# EAGLE library part ADG453?-EV (library _hhn_adg45x)
ANALOG DEVICES ADG453 LC2MOS SPST SWITCHES: 2 x NC, 2 x NO Exploded View; D=Drain, S=Source Case-Styles BRZ: SOIC 16 Standard Author: Dipl.-Ing. FH Rainer Bayer, rainer.bayer@hs-heilbronn.de
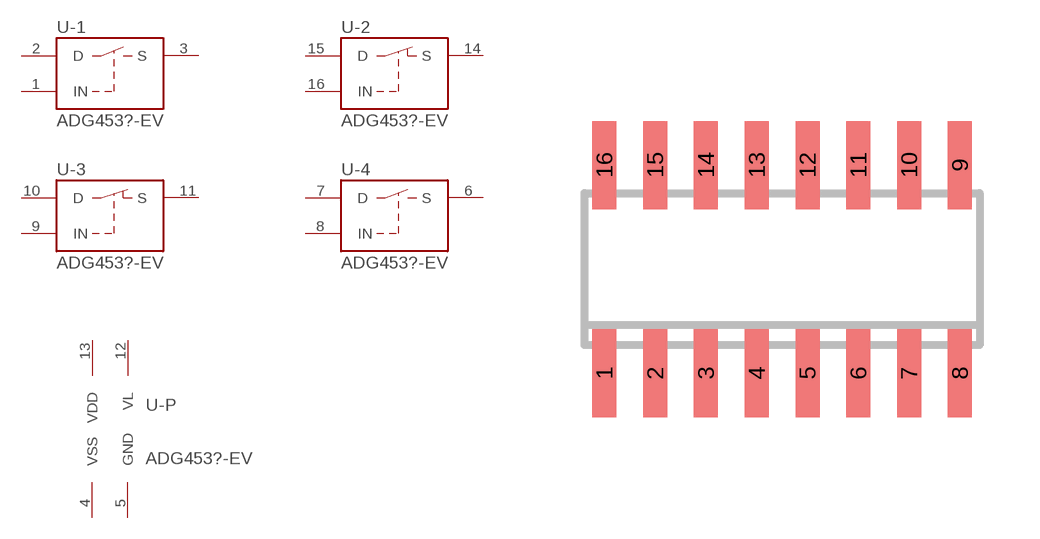
[diagram p2: symbol with the pads of SO16; footprint SO16]

Designator prefix U; gates -1=NO_SPST -2=NC_SPST -3=NC_SPST -4=NO_SPST -P=PWR

## ADG453BRZ-EV  [SO16]
1  -1:IN  in
2  -1:D  hiz
3  -1:S  hiz
4  -P:VSS  pwr
5  -P:GND  pwr
6  -4:S  hiz
7  -4:D  hiz
8  -4:IN  in
9  -3:IN  in
10  -3:D  hiz
11  -3:S  hiz
12  -P:VL  pwr
13  -P:VDD  pwr
14  -2:S  hiz
15  -2:D  hiz
16  -2:IN  in

## Footprint SO16 (pad centres in mm)
smd 0.6 x 2.2: 1 -4.445,-2.6; 2 -3.175,-2.6; 3 -1.905,-2.6; 4 -0.635,-2.6; 5 0.635,-2.6; 6 1.905,-2.6; 7 3.175,-2.6; 8 4.445,-2.6; 9 4.445,2.6; 10 3.175,2.6; 11 1.905,2.6; 12 0.635,2.6; 13 -0.635,2.6; 14 -1.905,2.6; 15 -3.175,2.6; 16 -4.445,2.6